# Altium integrated library Capacitor 1206.IntLib: 12 symbols
Pins are listed as number, name and electrical type; pins without a type are passive.

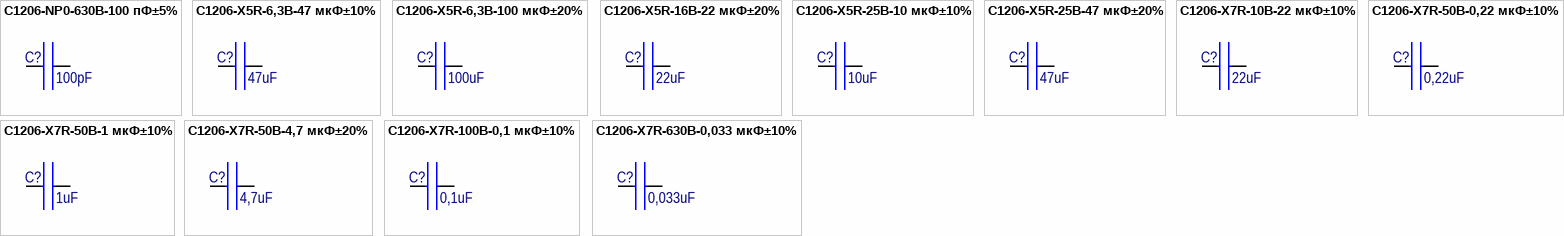
[diagram p0: symbols C1206-NP0-630В-100 пФ±5% to C1206-X7R-630В-0,033 мкФ±10%]

## C1206-NP0-630В-100 пФ±5%
designator C?, comment value 100pF  (hidden comment: GRM31A5C2J101J)
CAP CER 100PF 630V 5% NP0 1206; Manufacturer: Murata Electronics; Group: 9170; RegulationProcent: 10; TypeName: Конденсатор; Published: 10.07.2013; Publisher: Konon DI; Distributor: Digi-Key; DistributorPartNumber: 490-5273-1-ND; LatestRevisionDate: 10.07.2013; ManufacturerPartNumber: GRM31A5C2J101J; Package: 3216 [1206]; Library: Capacitor 1206
footprint CAPC3216NX10 [1206] (Chip Capacitor, Body 3.2x1.6mm, IPC Medium Density)
pins: 1, 2

## C1206-X5R-6,3В-47 мкФ±10%
designator C?, comment value 47uF  (hidden comment: Ch 1206)
CAP CER 47UF 6.3V X5R 1206; Manufacturer: Murata; ManufacturerPartNumber: GRM31CR60J476K; Group: 9170; RegulationProcent: 10; TypeName: Конденсатор; Published: 14.06.2017; Publisher: Stanchik A; Distributor: Digi-Key; DistributorPartNumber: 490-6508-1-ND; LatestRevisionDate: 14.06.2017; Package: 3216 [1206]; Library: Capacitor 1206
footprint CAPC3216Nx16 [1206] (Chip Capacitor, Body 3.2x1.6mm, IPC Medium Density)
pins: 1, 2

## C1206-X5R-6,3В-100 мкФ±20%
designator C?, comment value 100uF  (hidden comment: Ch 1206)
CAP CER 100UF 6.3V 20% X5R 1206; Manufacturer: Murata Electronics; ManufacturerPartNumber: GRM31CR60J107M; Group: 9170; RegulationProcent: 10; TypeName: Конденсатор; Published: 10.07.2013; Publisher: Konon DI; Distributor: Digi-Key; DistributorPartNumber: 490-4539-1-ND; LatestRevisionDate: 10.07.2013; Package: 3216 [1206]; Library: Capacitor 1206
footprint CAPC3216Nx16 [1206] (Chip Capacitor, Body 3.2x1.6mm, IPC Medium Density)
pins: 1, 2

## C1206-X5R-16В-22 мкФ±20%
designator C?, comment value 22uF  (hidden comment: GRM31CR61C226M)
CAP CER 22UF 16V 20% X5R 1206; Manufacturer: Murata Electronics; Group: 9170; RegulationProcent: 10; TypeName: Конденсатор; Published: 06.08.2014; Publisher: Stanchik A; Distributor: Digi-Key; DistributorPartNumber: 490-4739-6-ND; LatestRevisionDate: 06.08.2014; ManufacturerPartNumber: GRM31CR61C226M; Package: 3216 [1206]; Library: Capacitor 1206
footprint CAPC3216Nx16 [1206] (Chip Capacitor, Body 3.2x1.6mm, IPC Medium Density)
pins: 1, 2

## C1206-X5R-25В-10 мкФ±10%
designator C?, comment value 10uF  (hidden comment: Ch 1206)
CAP CER 10UF 25V 10% X5R 1206; Manufacturer: Murata Electronics; ManufacturerPartNumber: GRM31CR61E106K; Group: 9170; RegulationProcent: 10; TypeName: Конденсатор; Published: 29.11.2013; Publisher: Stanchik A; Distributor: Digi-Key; DistributorPartNumber: 490-3373-6-ND; LatestRevisionDate: 29.11.2013; Package: 3216 [1206]; Library: Capacitor 1206
footprint CAPC3216Nx16 [1206] (Chip Capacitor, Body 3.2x1.6mm, IPC Medium Density)
pins: 1, 2

## C1206-X5R-25В-47 мкФ±20%
designator C?, comment value 47uF  (hidden comment: Ch 1206)
CAP CER 47UF 25V 20% X5R 1206; Manufacturer: TDK Corporation; ManufacturerPartNumber: C3216X5R1E476M160; Group: 9170; RegulationProcent: 10; TypeName: Конденсатор; Published: 06.08.2014; Publisher: Stanchik A; Distributor: Digi-Key; DistributorPartNumber: 445-8047-6-ND; LatestRevisionDate: 06.08.2014; Package: 3216 [1206]; Library: Capacitor 1206
footprint CAPC3216Nx16 [1206] (Chip Capacitor, Body 3.2x1.6mm, IPC Medium Density)
pins: 1, 2

## C1206-X7R-10В-22 мкФ±10%
designator C?, comment value 22uF  (hidden comment: GRM31CR71A226K)
CAP CER 22UF 10V 10% X7R 1206; Manufacturer: Murata Electronics; Group: 9170; RegulationProcent: 10; TypeName: Конденсатор; Published: 10.07.2013; Publisher: Konon DI; Distributor: Digi-Key; DistributorPartNumber: 490-5309-1-ND; LatestRevisionDate: 10.07.2013; ManufacturerPartNumber: GRM31CR71A226K; Package: 3216 [1206]; Library: Capacitor 1206
footprint CAPC3216Nx16 [1206] (Chip Capacitor, Body 3.2x1.6mm, IPC Medium Density)
pins: 1, 2

## C1206-X7R-50В-0,22 мкФ±10%
designator C?, comment value 0,22uF  (hidden comment: GRM319R71H224K)
CAP CER 0.22UF 50V 10% X7R 1206; Manufacturer: Murata Electronics; Group: 9170; RegulationProcent: 10; TypeName: Конденсатор; Published: 10.07.2013; Publisher: Konon DI; Distributor: Digi-Key; DistributorPartNumber: 490-1776-1-ND; LatestRevisionDate: 10.07.2013; ManufacturerPartNumber: GRM319R71H224K; Package: 3216 [1206]; Library: Capacitor 1206
footprint CAPC3216NX09 [1206] (Chip Capacitor, Body 3.2x1.6mm, IPC Medium Density)
pins: 1, 2

## C1206-X7R-50В-1 мкФ±10%
designator C?, comment value 1uF  (hidden comment: GRM31CR71H105K)
CAP CER 1UF 50V X7R 1206; Manufacturer: Murata Electronics; Group: 9170; RegulationProcent: 10; TypeName: Конденсатор; Published: 12.07.2017; Publisher: Stanchik A; Distributor: Digi-Key; DistributorPartNumber: 490-3908-1-ND; LatestRevisionDate: 12.07.2017; ManufacturerPartNumber: GRM31CR71H105K; Package: 3216 [1206]; Library: Capacitor 1206
footprint CAPC3216Nx16 [1206] (Chip Capacitor, Body 3.2x1.6mm, IPC Medium Density)
pins: 1, 2

## C1206-X7R-50В-4,7 мкФ±20%
designator C?, comment value 4,7uF  (hidden comment: GRM31CR71H475M)
CAP CER 4.7UF 50V 20% X7R 1206; Manufacturer: Murata Electronics; Group: 9170; RegulationProcent: 10; TypeName: Конденсатор; Published: 29.11.2013; Publisher: Auchinik; Distributor: Digi-Key; DistributorPartNumber: 490-6522-1-ND; LatestRevisionDate: 10.07.2013; ManufacturerPartNumber: GRM31CR71H475M; Package: 3216 [1206]; Library: Capacitor 1206
footprint CAPC3216Nx16 [1206] (Chip Capacitor, Body 3.2x1.6mm, IPC Medium Density)
pins: 1, 2

## C1206-X7R-100В-0,1 мкФ±10%
designator C?, comment value 0,1uF  (hidden comment: GRM319R72A104K)
CAP CER 0.1UF 100V X7R 1206; Manufacturer: Murata Electronics; Group: 9170; RegulationProcent: 10; TypeName: Конденсатор; Published: 29.08.2017; Publisher: Stanchik A; Distributor: Digi-Key; DistributorPartNumber: 490-3364-1-ND; LatestRevisionDate: 29.08.2017; ManufacturerPartNumber: GRM319R72A104K; Package: 3216 [1206]; Library: Capacitor 1206
footprint CAPC3216NX09 [1206] (Chip Capacitor, Body 3.2x1.6mm, IPC Medium Density)
pins: 1, 2

## C1206-X7R-630В-0,033 мкФ±10%
designator C?, comment value 0,033uF  (hidden comment: C3216X7R2J333K160)
CAP CER 0.033UF 630V X7R 1206; Manufacturer: Murata Electronics; Group: 9170; RegulationProcent: 10; TypeName: Конденсатор; Published: 10.07.2013; Publisher: Konon DI; Distributor: Digi-Key; DistributorPartNumber: 445-6089-1-ND; LatestRevisionDate: 10.07.2013; ManufacturerPartNumber: C3216X7R2J333K160; Package: 3216 [1206]; Library: Capacitor 1206
footprint CAPC3216Nx16 [1206] (Chip Capacitor, Body 3.2x1.6mm, IPC Medium Density)
pins: 1, 2